# EAGLE library part W9864G6KH (library added_parts)
W9864G6KH High-speed synchronous dynamic random access memory (SDRAM), organized as 1M words x 4 banks x 16 bits.
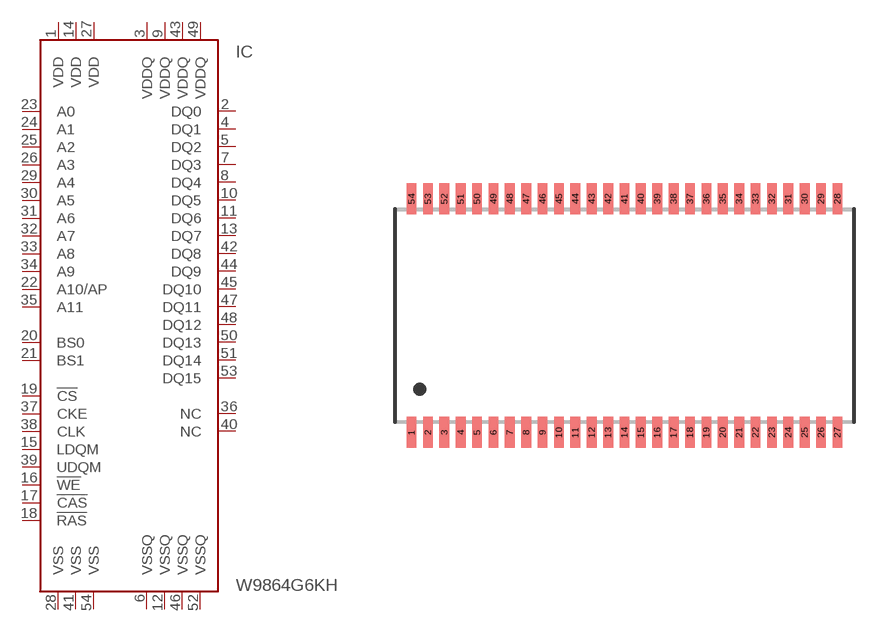
[diagram p1: symbol with the pads of TSOP_II_54; footprint TSOP_II_54]

Designator prefix IC

## W9864G6KH  [TSOP_II_54]
1  VDD  pwr
2  DQ0
3  VDDQ  pwr
4  DQ1
5  DQ2
6  VSSQ  pwr
7  DQ3
8  DQ4
9  VDDQ  pwr
10  DQ5
11  DQ6
12  VSSQ  pwr
13  DQ7
14  VDD  pwr
15  LDQM  in
16  !WE  in
17  !CAS  in
18  !RAS  in
19  !CS  in
20  BS0  in
21  BS1  in
22  A10/AP  in
23  A0  in
24  A1  in
25  A2  in
26  A3  in
27  VDD  pwr
28  VSS  pwr
29  A4  in
30  A5  in
31  A6  in
32  A7  in
33  A8  in
34  A9  in
35  A11  in
36  NC  nc
37  CKE  in
38  CLK  in
39  UDQM  in
40  NC  nc
41  VSS  pwr
42  DQ8
43  VDDQ  pwr
44  DQ9
45  DQ10
46  VSSQ  pwr
47  DQ11
48  DQ12
49  VDDQ  pwr
50  DQ13
51  DQ14
52  VSSQ  pwr
53  DQ15
54  VSS  pwr

## Footprint TSOP_II_54 (pad centres in mm)
smd 0.477 x 1.517: 1 -10.4,-5.705; 2 -9.6,-5.705; 3 -8.8,-5.705; 4 -8,-5.705; 5 -7.2,-5.705; 6 -6.4,-5.705; 7 -5.6,-5.705; 8 -4.8,-5.705; 9 -4,-5.705; 10 -3.2,-5.705; 11 -2.4,-5.705; 12 -1.6,-5.705; 13 -0.8,-5.705; 14 0,-5.705; 15 0.8,-5.705; 16 1.6,-5.705; 17 2.4,-5.705; 18 3.2,-5.705; 19 4,-5.705; 20 4.8,-5.705; 21 5.6,-5.705; 22 6.4,-5.705; 23 7.2,-5.705; 24 8,-5.705; 25 8.8,-5.705; 26 9.6,-5.705; 27 10.4,-5.705; 28 10.4,5.705; 29 9.6,5.705; 30 8.8,5.705; 31 8,5.705; 32 7.2,5.705; 33 6.4,5.705; 34 5.6,5.705; 35 4.8,5.705; 36 4,5.705; 37 3.2,5.705; 38 2.4,5.705; 39 1.6,5.705; 40 0.8,5.705; 41 0,5.705; 42 -0.8,5.705; 43 -1.6,5.705; 44 -2.4,5.705; 45 -3.2,5.705; 46 -4,5.705; 47 -4.8,5.705; 48 -5.6,5.705; 49 -6.4,5.705; 50 -7.2,5.705; 51 -8,5.705; 52 -8.8,5.705; 53 -9.6,5.705; 54 -10.4,5.705